# Altium schematic symbol library DAC7562SDGST.SchLib: 1 symbol
Pins are listed as number, name and electrical type; pins without a type are passive.

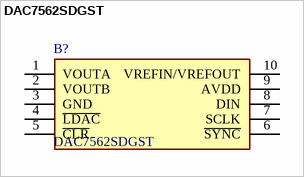
[diagram p0: symbol DAC7562SDGST]

## DAC7562SDGST
designator B?
12-Bit, Dual, Low Power, Ultra-low Glitch, Buffered Voltage Output DAC with 2.5V, 4ppm/C Reference; Manufacturer_Name: Texas Instruments; Geometry.Height: 1.1mm; Mouser Part Number: 595-DAC7562SDGST; Mouser Price/Stock: https://www.mouser.co.uk/ProductDetail/Texas-Instruments/DAC7562SDGST?qs=L4ss%2FyqpMWSGO6Owt%2FvKEw%3D%3D; Manufacturer_Part_Number: DAC7562SDGST; Datasheet Link: http://www.ti.com/lit/gpn/DAC7562
footprint SOP50P490X110-10N
pins: 1 VOUTA, 2 VOUTB, 3 GND, 4 ~{LDAC}, 5 ~{CLR}, 6 ~{SYNC}, 7 SCLK, 8 DIN, 9 AVDD, 10 VREFIN/VREFOUT